# EAGLE library part TC7W32 (library 7tiny-logic)
Dual OR
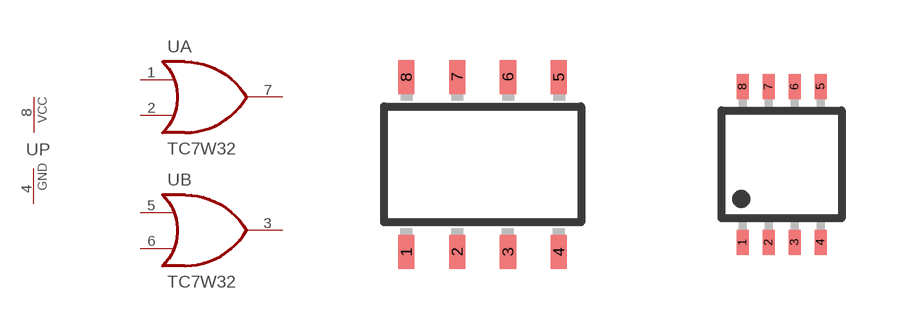
[diagram p2: symbol with the pads of SOP8-P-127; footprints SOP8-P-127, SSOP8-P-065]

Designator prefix U; gates A=GATE_OR B=GATE_OR P=PWRGNDV

## TC7W32F  [SOP8-P-127]
1  A:A  in
2  A:B  in
3  B:OUT  out
4  P:GND  pwr
5  B:A  in
6  B:B  in
7  A:OUT  out
8  P:VCC  pwr

## TC7W32FU  [SSOP8-P-065]
Pads as for SOP8-P-127

## TC7W32FK  [SSOP8-P-050A]
Pads as for SOP8-P-127

## Footprint SOP8-P-127 (pad centres in mm)
SOP8-P-12.7
smd 0.4 x 0.85: 1 -1.905,-2.19; 2 -0.635,-2.19; 3 0.635,-2.19; 4 1.905,-2.19; 5 1.905,2.19; 6 0.635,2.19; 7 -0.635,2.19; 8 -1.905,2.19

## Footprint SSOP8-P-065 (pad centres in mm)
SSOP-P-065
smd 0.3 x 0.635: 1 -0.975,-1.95; 2 -0.325,-1.95; 3 0.325,-1.95; 4 0.975,-1.95; 5 0.975,1.95; 6 0.325,1.95; 7 -0.325,1.95; 8 -0.975,1.95

## Footprint SSOP8-P-050A (pad centres in mm)
SSOP-P-050A
smd 0.25 x 0.635: 1 -0.75,-1.75; 2 -0.25,-1.75; 3 0.25,-1.75; 4 0.75,-1.75; 5 0.75,1.75; 6 0.25,1.75; 7 -0.25,1.75; 8 -0.75,1.75